# Altium footprint library 二极管-整流桥.PcbLib: 49 footprints (part 4 of 4)
Each footprint in its own frame and in the unit in brackets; x right, y up, seen from the top. Pads: shape width x height; smd on the part's side, far side on the other; paste and mask are expansions set on the pad; w line width, h text height; cw(c..) or ccw(c..) is an arc to the next point about the centre after c.
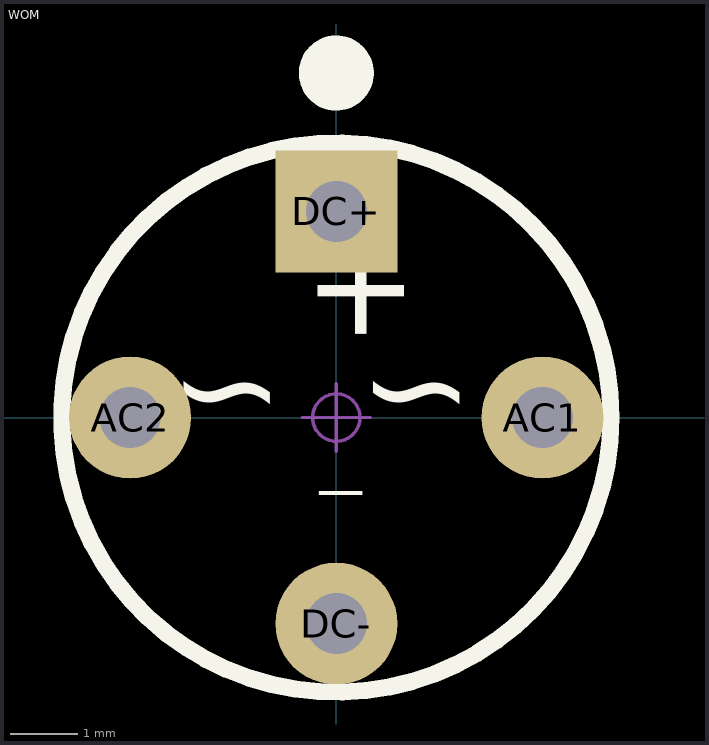
[diagram p3: the footprint, top view; thin cyan lines are the x and y axes]

## WOM [mm] "8.1*5.1mm(直径，高)"
pads (4):
  round 1.8 hole 0.9: AC1(3.04,0) AC2(-3.04,0) DC-(0,-3.04)
  rect 1.8x1.8 hole 0.9: DC+(0,3.04)
Top Overlay:
  circle w0.6: c0,5.08 r0.254
  circle w0.254: c0,0 r4.05
  text "+" at -0.762,1.016 h2.54
  text "-" at 0.508,-2.286 h3.05
  text "~" at 2.032,-0.762 h2.54
  text "~" at -0.762,-0.762 h2.54
Mechanical 15:
  circle w0.05: c0,0 r0.35
  lines w0.05: -0.5,0 0.5,0 ; 0,-0.5 0,0.5
3D body "WOM.STEP": height 5.1, standoff -3.5, extent -4.05,-4.05 4.05,4.05